# Altium footprint library PcbLib.PcbLib: 10 footprints
Each footprint in its own frame and in the unit in brackets; x right, y up, seen from the top. Pads: shape width x height; smd on the part's side, far side on the other; paste and mask are expansions set on the pad; w line width, h text height; cw(c..) or ccw(c..) is an arc to the next point about the centre after c.
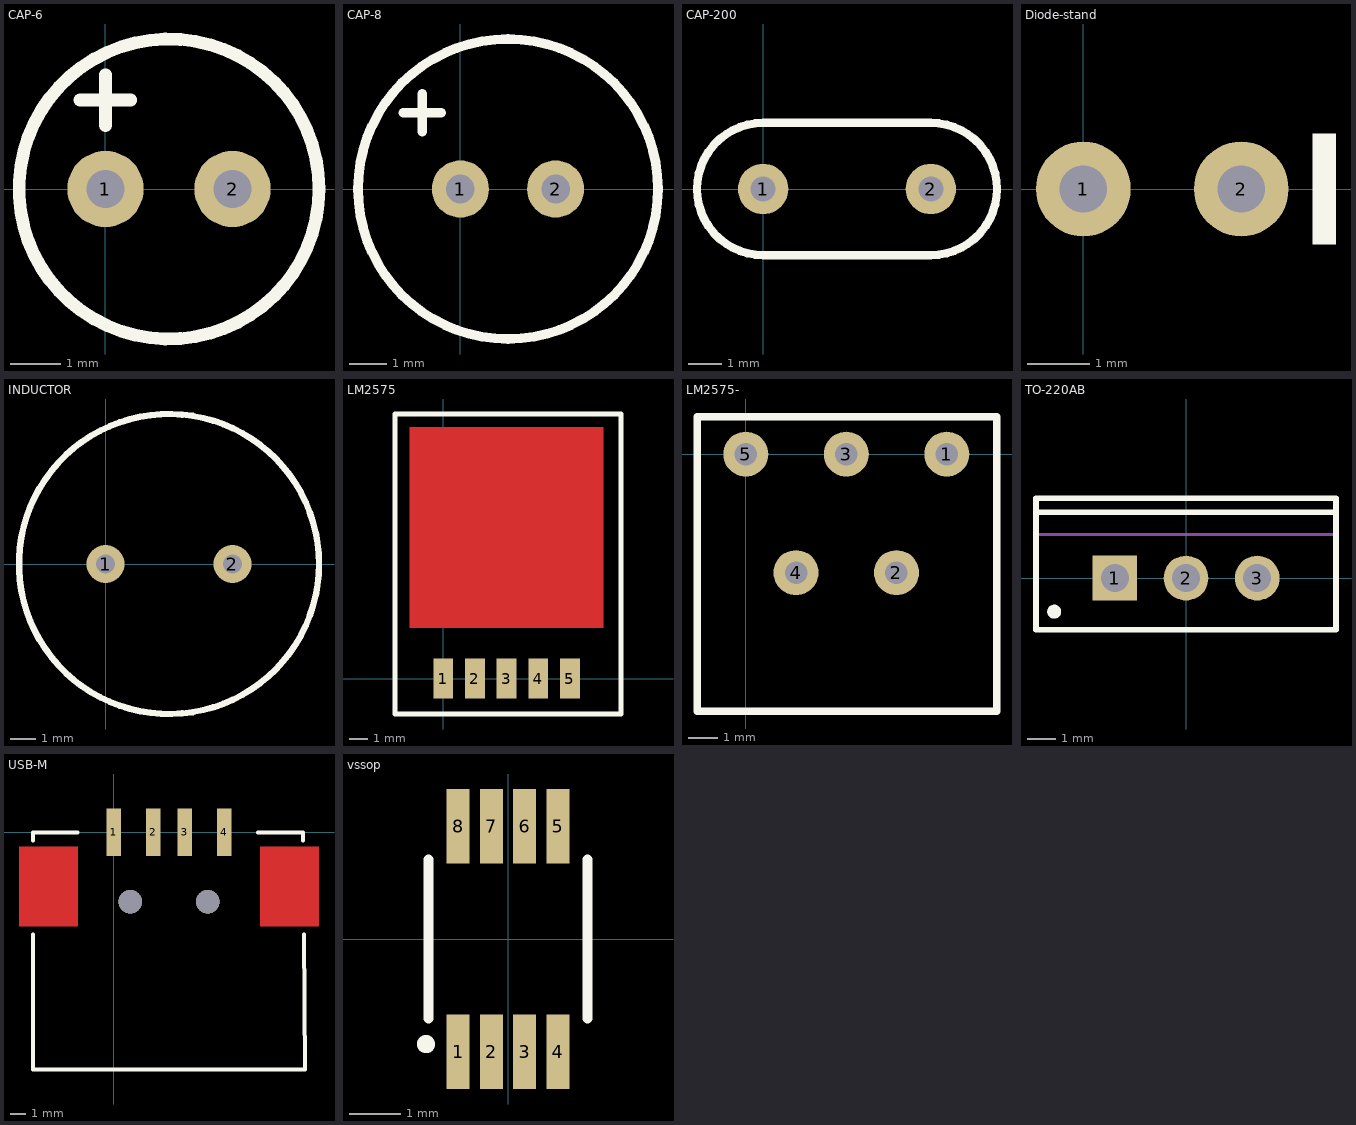
[diagram p0: the footprints below, top view; thin cyan lines are the x and y axes]

## CAP-6 [mil]
pads (2):
  round 60 hole 30: 1(0,0) 2(100,0)
Top Overlay:
  circle w10: c50,0 r118.11
  lines w10: -20,70 20,70 ; 0,50 0,90

## CAP-8 [mil]
pads (2):
  round 60 hole 30: 1(0,0) 2(100,0)
Top Overlay:
  circle w10: c50,0 r157.48
  lines w10: -60,80 -20,80 ; -40,60 -40,100

## CAP-200 [mil]
pads (2):
  round 60 hole 30: 1(0,0) 2(200,0)
Top Overlay:
  lines w10: 196.85,78.74 0,78.74 ccw(c0,0) 0,-78.74 200,-78.74 ccw(c200,0) 200,78.74

## Diode-stand [mil]
pads (2):
  round 60 hole 30: 1(0,0) 2(100,0)
Top Overlay:
  rectangle: 145,-35 160,35

## INDUCTOR [mil]
pads (2):
  round 60 hole 30: 1(0,0) 2(200,0)
Top Overlay:
  circle w10: c100,0 r236.22

## LM2575 [mil]
pads (5):
  rect 42x85 smd: 1(0,0) 2(67,0) 3(134,0) 4(201,0) 5(268,0)
Top Layer:
  rectangle: -71,107 339,532
Top Overlay:
  lines w10: -102,-75 376,-75 376,560 -102,560 -102,-75

## LM2575- [mil]
pads (5):
  round 60 hole 30: 1(268,0) 2(201,-158) 3(134,0) 4(67,-158) 5(0,0)
Top Overlay:
  lines w10: -65,-343 -65,50 335,50 335,-343 -65,-343

## TO-220AB [mm] "TO, Thru-Hole, Vertical, Heatsink Mounted; 3 In-Line Leads; Pitch 2.54 mm"
height 19.3
pads (3):
  rect 1.6x1.6 hole 1: 1(-2.54,0)
  round 1.6 hole 1: 2(0,0) 3(2.54,0)
Top Overlay:
  circle w0.25: c-4.7,-1.2 r0.125
  lines w0.2: -5.35,2.35 5.35,2.35 ; -5.35,-1.85 5.35,-1.85 5.35,2.85 -5.35,2.85 -5.35,-1.85
Mechanical 13:
  lines w0.1: -5.35,1.55 5.35,1.55 ; -5.35,-1.85 -5.35,2.85 5.35,2.85 5.35,-1.85 -5.35,-1.85
Mechanical 15:
  lines w0.1: -0.5,0 0.5,0 ; 0,-0.5 0,0.5
3D body: height 19.3, standoff 12.9, extent -5.349,1.551 5.349,2.849
3D body: height 12.9, standoff 4, extent -5.4,-1.9 5.4,2.9

## USB-M [mm]
pads (4):
  rect 0.9x3 smd: 1(0,0) 2(2.5,0) 3(4.5,0) 4(7,0)
via 5.95,-4.4 diameter 1.5 hole 1.5
via 1.05,-4.4 diameter 1.5 hole 1.5
Top Layer:
  rectangle: 9.275,-5.969 13,-0.9
  rectangle: -6,-5.969 -2.275,-0.9
Top Overlay:
  lines w0.254: -5.1,-6.477 -5.1,-15 12,-15 ; -5.1,-0.508 -5.1,0 -2.286,0 ; 9.144,0 12,0 12,-0.508 ; 12.05,-6.477 12.1,-15
Mechanical 13:
  pour cut-out: 2.5,-7.5

## vssop [mm]
height 1.1
pads (8):
  rect 0.45x1.45 smd: 1(-0.975,-2.2) 2(-0.325,-2.2) 3(0.325,-2.2) 4(0.975,-2.2) 5(0.975,2.2) 6(0.325,2.2) 7(-0.325,2.2) 8(-0.975,2.2)
Top Overlay:
  circle w0.254: c-1.6,-2.05 r0.05
  lines w0.2: -1.55,-1.55 -1.55,1.55 ; 1.55,-1.55 1.55,1.55